# Altium schematic symbol library DC-DC conwertor.SchLib: 12 symbols
Pins are listed as number, name and electrical type; pins without a type are passive.

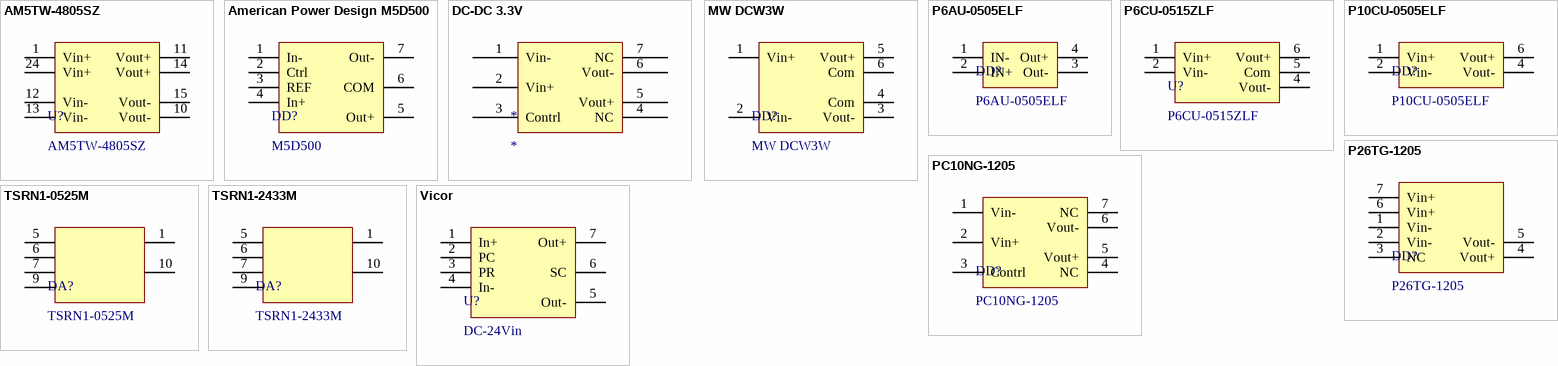
[diagram p0: symbols AM5TW-4805SZ to Vicor]

## AM5TW-4805SZ
designator U?
DC-DC; Manufacturer: Aimtec; Number of Outputs: 1; Output Current: 1A; Output Voltage: 5V; Output Power: 5W; Manufacturer Part Number: AM5TW-4805SZ; Number of Pins: 7; Supplier Part Number: AM5TW-4805SZ
footprint AM5TW-4805SZ
pins: 1 Vin+, 10 Vout-, 11 Vout+, 12 Vin-, 13 Vin-, 14 Vout+, 15 Vout-, 24 Vin+

## American Power Design M5D500
designator DD?, comment M5D500
DC-DC
footprint A_P_D_M5D500
pins: 1 In-, 2 Ctrl, 3 REF, 4 In+, 5 Out+, 6 COM, 7 Out-

## DC-DC 3.3V
designator *
footprint DC-DC SOP-8
pins: 1 Vin-, 2 Vin+, 3 Contrl, 4 NC, 5 Vout+, 6 Vout-, 7 NC

## MW DCW3W
designator DD?
DC-DC
footprint DC-DC MW DCW3W
pins: 1 Vin+, 2 Vin-, 3 Vout-, 4 Com, 5 Vout+, 6 Com

## P6AU-0505ELF
designator DD?
DC-DC
footprint SIP4
pins: 1 IN-, 2 IN+, 3 Out-, 4 Out+

## P6CU-0515ZLF
designator U?
DC-DC
footprint SIP7
pins: 1 Vin+, 2 Vin-, 4 Vout-, 5 Com, 6 Vout+

## P10CU-0505ELF
designator DD?
DC-DC
footprint SIP7
pins: 1 Vin+, 2 Vin-, 4 Vout-, 6 Vout+

## P26TG-1205
designator DD?
DC-DC
footprint DC-DC P26TG-1205
pins: 1 Vin-, 2 Vin-, 3 NC, 4 Vout+, 5 Vout-, 6 Vin+, 7 Vin+

## PC10NG-1205
designator DD?
DC-DC
footprint DC-DC SOP-8
pins: 1 Vin-, 2 Vin+, 3 Contrl, 4 NC, 5 Vout+, 6 Vout-, 7 NC

## TSRN1-0525M
designator DA?
DC-DC
footprint TSRN1
pins: 1, 5, 6, 7, 9, 10

## TSRN1-2433M
designator DA?
DC-DC
footprint TSRN1
pins: 1, 5, 6, 7, 9, 10

## Vicor
designator U?, comment DC-24Vin
DC-DC
footprint VICOR
pins: 1 In+, 2 PC, 3 PR, 4 In-, 5 Out-, 6 SC, 7 Out+